# Altium footprint library LQFP100.PcbLib: 1 footprints
Each footprint in its own frame and in the unit in brackets; x right, y up, seen from the top. Pads: shape width x height; smd on the part's side, far side on the other; paste and mask are expansions set on the pad; w line width, h text height; cw(c..) or ccw(c..) is an arc to the next point about the centre after c.
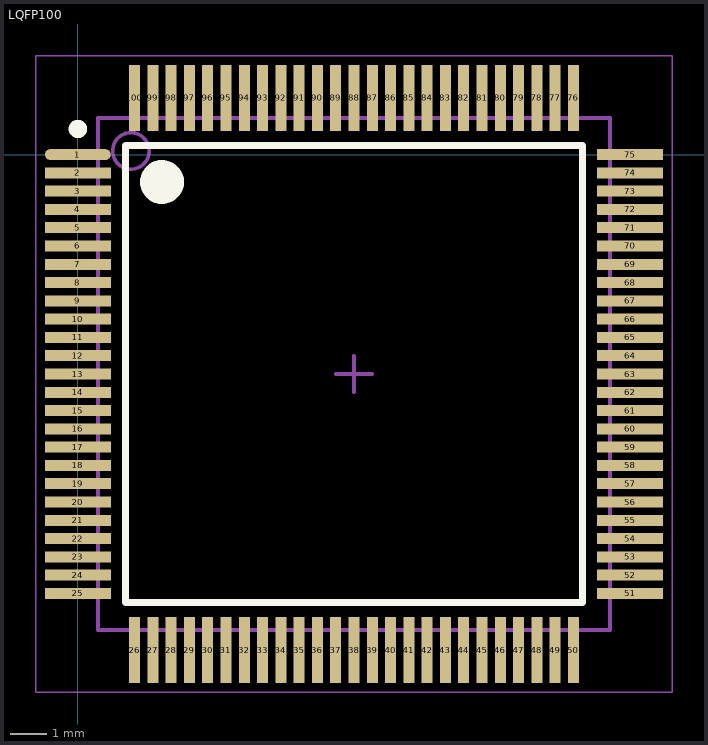
[diagram p0: the footprint, top view; thin cyan lines are the x and y axes]

## LQFP100 [mm] "100-pin 14x14 mm low-profile quad package"
pads (100):
  oval 1.8x0.3 smd: 1(0,0)
  rect 1.8x0.3 smd: 2(0,-0.5) 3(0,-1) 4(0,-1.5) 5(0,-2) 6(0,-2.5) 7(0,-3) 8(0,-3.5) 9(0,-4) 10(0,-4.5) 11(0,-5) 12(0,-5.5) 13(0,-6) 14(0,-6.5) 15(0,-7) 16(0,-7.5) 17(0,-8) 18(0,-8.5) 19(0,-9) 20(0,-9.5) 21(0,-10) 22(0,-10.5) 23(0,-11) 24(0,-11.5) 25(0,-12) 51(15.1,-12) 52(15.1,-11.5) 53(15.1,-11) 54(15.1,-10.5) 55(15.1,-10) 56(15.1,-9.5) 57(15.1,-9) 58(15.1,-8.5) 59(15.1,-8) 60(15.1,-7.5) 61(15.1,-7) 62(15.1,-6.5) 63(15.1,-6) 64(15.1,-5.5) 65(15.1,-5) 66(15.1,-4.5) 67(15.1,-4) 68(15.1,-3.5) 69(15.1,-3) 70(15.1,-2.5) 71(15.1,-2) 72(15.1,-1.5) 73(15.1,-1) 74(15.1,-0.5) 75(15.1,0)
  rect 0.3x1.8 smd: 26(1.55,-13.55) 27(2.05,-13.55) 28(2.55,-13.55) 29(3.05,-13.55) 30(3.55,-13.55) 31(4.05,-13.55) 32(4.55,-13.55) 33(5.05,-13.55) 34(5.55,-13.55) 35(6.05,-13.55) 36(6.55,-13.55) 37(7.05,-13.55) 38(7.55,-13.55) 39(8.05,-13.55) 40(8.55,-13.55) 41(9.05,-13.55) 42(9.55,-13.55) 43(10.05,-13.55) 44(10.55,-13.55) 45(11.05,-13.55) 46(11.55,-13.55) 47(12.05,-13.55) 48(12.55,-13.55) 49(13.05,-13.55) 50(13.55,-13.55) 76(13.55,1.55) 77(13.05,1.55) 78(12.55,1.55) 79(12.05,1.55) 80(11.55,1.55) 81(11.05,1.55) 82(10.55,1.55) 83(10.05,1.55) 84(9.55,1.55) 85(9.05,1.55) 86(8.55,1.55) 87(8.05,1.55) 88(7.55,1.55) 89(7.05,1.55) 90(6.55,1.55) 91(6.05,1.55) 92(5.55,1.55) 93(5.05,1.55) 94(4.55,1.55) 95(4.05,1.55) 96(3.55,1.55) 97(3.05,1.55) 98(2.55,1.55) 99(2.05,1.55) 100(1.55,1.55)
Top Overlay:
  circle w0.6: c2.3,-0.75 r0.3
  circle w0.25: c0,0.7 r0.125
  lines w0.2: 1.3,-12.25 13.8,-12.25 13.8,0.25 1.3,0.25 1.3,-12.25
Mechanical 13:
  circle w0.1: c1.45,0.1 r0.5
  lines w0.1: 0.55,-13 14.55,-13 14.55,1 0.55,1 0.55,-13
Mechanical 15:
  lines w0.05: -1.15,-14.7 16.25,-14.7 16.25,2.7 -1.15,2.7 -1.15,-14.7
  lines w0.1: 7.05,-6 8.05,-6 ; 7.55,-6.5 7.55,-5.5
3D body "LQFP100.STEP": height 1.62, standoff -0.01, extent -0.522,-14.072 15.622,2.072